# EAGLE library part M16C/29(64PIN) (library renesas_mcu)
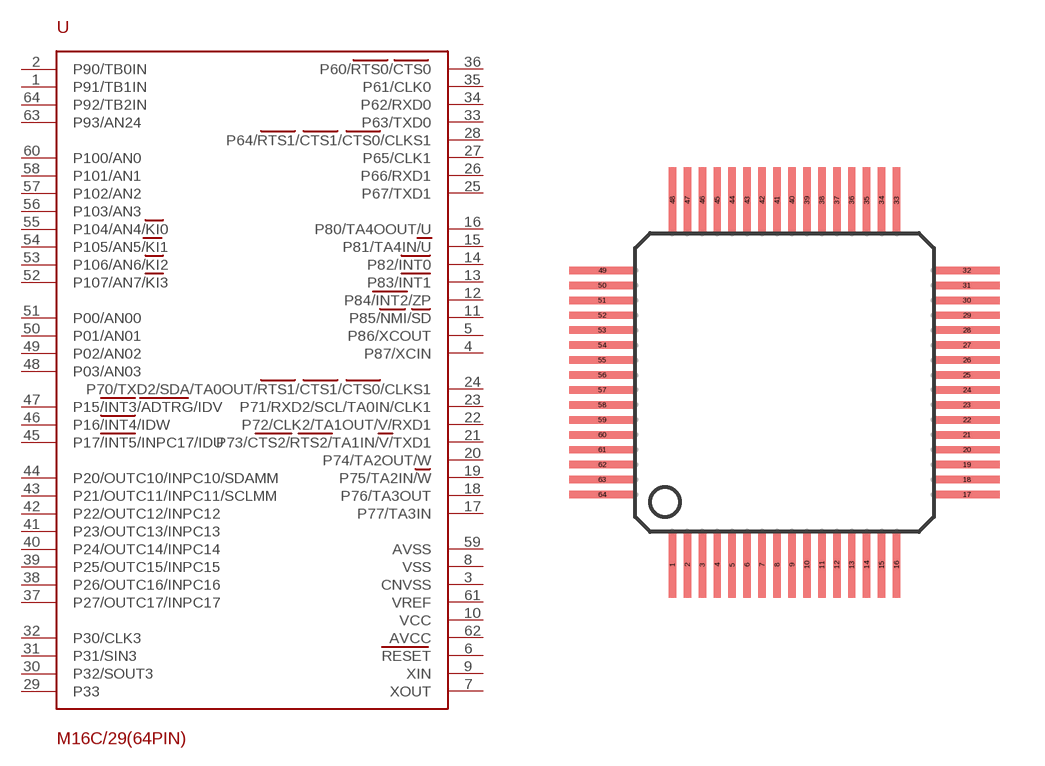
[diagram p89: symbol with the pads of 64P6Q-A; footprint 64P6Q-A]

Designator prefix -

## M16C/29(64PIN)  [64P6Q-A]
1  P91/TB1IN
2  P90/TB0IN
3  CNVSS
4  P87/XCIN
5  P86/XCOUT
6  RESET
7  XOUT
8  VSS
9  XIN
10  VCC
11  P85/NMI/SD
12  P84/INT2/ZP
13  P83/INT1
14  P82/INT0
15  P81/TA4IN/U
16  P80/TA4OOUT/U
17  P77/TA3IN
18  P76/TA3OUT
19  P75/TA2IN/W
20  P74/TA2OUT/W
21  P73/CTS2/RTS2/TA1IN/V/TXD1
22  P72/CLK2/TA1OUT/V/RXD1
23  P71/RXD2/SCL/TA0IN/CLK1
24  P70/TXD2/SDA/TA0OUT/RTS1/CTS1/CTS0/CLKS1
25  P67/TXD1
26  P66/RXD1
27  P65/CLK1
28  P64/RTS1/CTS1/CTS0/CLKS1
29  P33
30  P32/SOUT3
31  P31/SIN3
32  P30/CLK3
33  P63/TXD0
34  P62/RXD0
35  P61/CLK0
36  P60/RTS0/CTS0
37  P27/OUTC17/INPC17
38  P26/OUTC16/INPC16
39  P25/OUTC15/INPC15
40  P24/OUTC14/INPC14
41  P23/OUTC13/INPC13
42  P22/OUTC12/INPC12
43  P21/OUTC11/INPC11/SCLMM
44  P20/OUTC10/INPC10/SDAMM
45  P17/INT5/INPC17/IDU
46  P16/INT4/IDW
47  P15/INT3/ADTRG/IDV
48  P03/AN03
49  P02/AN02
50  P01/AN01
51  P00/AN00
52  P107/AN7/KI3
53  P106/AN6/KI2
54  P105/AN5/KI1
55  P104/AN4/KI0
56  P103/AN3
57  P102/AN2
58  P101/AN1
59  AVSS
60  P100/AN0
61  VREF
62  AVCC
63  P93/AN24
64  P92/TB2IN

## Footprint 64P6Q-A (pad centres in mm)
smd 0.25 x 2.2: 1 -3.75,-6.1; 2 -3.25,-6.1; 3 -2.75,-6.1; 4 -2.25,-6.1; 5 -1.75,-6.1; 6 -1.25,-6.1; 7 -0.75,-6.1; 8 -0.25,-6.1; 9 0.25,-6.1; 10 0.75,-6.1; 11 1.25,-6.1; 12 1.75,-6.1; 13 2.25,-6.1; 14 2.75,-6.1; 15 3.25,-6.1; 16 3.75,-6.1; 33 3.75,6.1; 34 3.25,6.1; 35 2.75,6.1; 36 2.25,6.1; 37 1.75,6.1; 38 1.25,6.1; 39 0.75,6.1; 40 0.25,6.1; 41 -0.25,6.1; 42 -0.75,6.1; 43 -1.25,6.1; 44 -1.75,6.1; 45 -2.25,6.1; 46 -2.75,6.1; 47 -3.25,6.1; 48 -3.75,6.1
smd 2.2 x 0.25: 17 6.1,-3.75; 18 6.1,-3.25; 19 6.1,-2.75; 20 6.1,-2.25; 21 6.1,-1.75; 22 6.1,-1.25; 23 6.1,-0.75; 24 6.1,-0.25; 25 6.1,0.25; 26 6.1,0.75; 27 6.1,1.25; 28 6.1,1.75; 29 6.1,2.25; 30 6.1,2.75; 31 6.1,3.25; 32 6.1,3.75; 49 -6.1,3.75; 50 -6.1,3.25; 51 -6.1,2.75; 52 -6.1,2.25; 53 -6.1,1.75; 54 -6.1,1.25; 55 -6.1,0.75; 56 -6.1,0.25; 57 -6.1,-0.25; 58 -6.1,-0.75; 59 -6.1,-1.25; 60 -6.1,-1.75; 61 -6.1,-2.25; 62 -6.1,-2.75; 63 -6.1,-3.25; 64 -6.1,-3.75